# Altium schematic symbol library SCH - MCU - ATSAM - MICROCHIP SAMD21J16B-AZ TQFP64.SchLib: 1 symbol
Pins are listed as number, name and electrical type; pins without a type are passive.

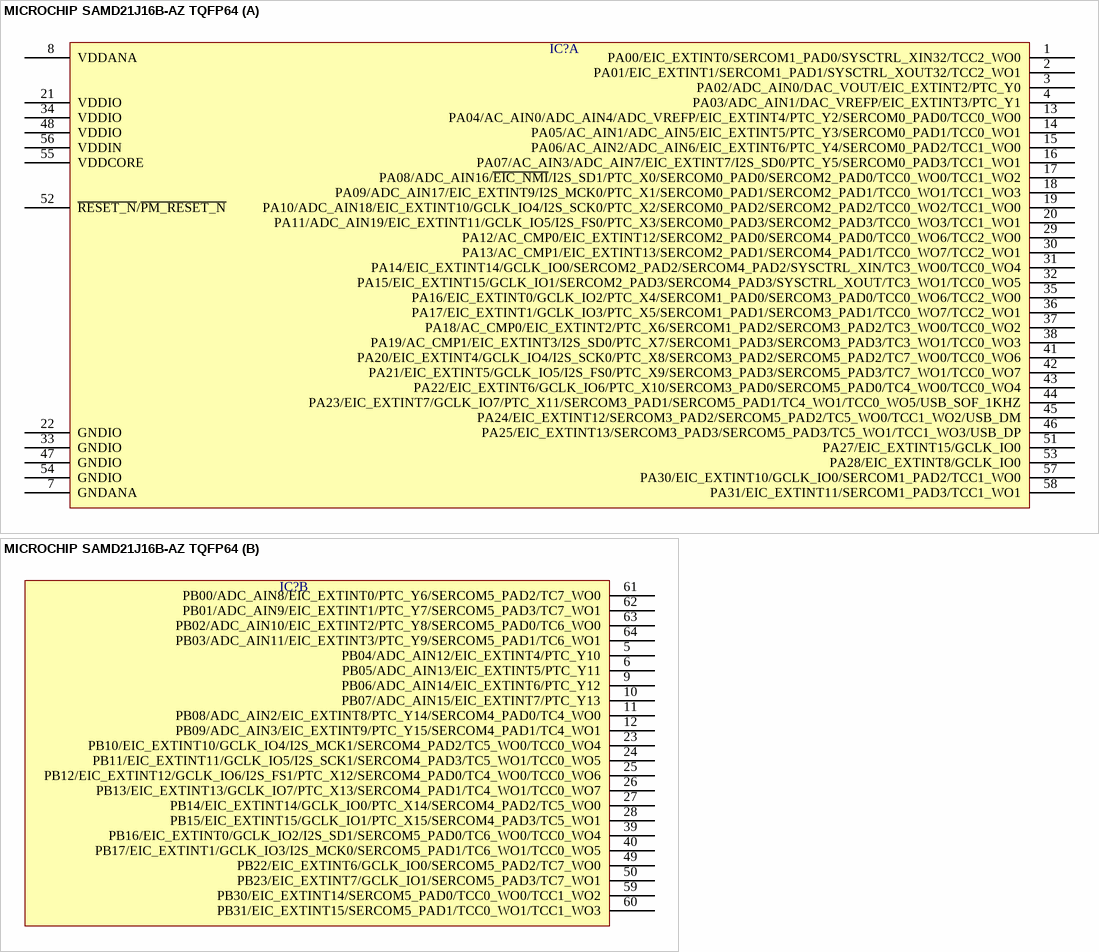
[diagram p0: symbol MICROCHIP SAMD21J16B-AZ TQFP64]

## MICROCHIP SAMD21J16B-AZ TQFP64
designator IC?  (value not drawn)
part A pins: 1 PA00/EIC_EXTINT0/SERCOM1_PAD0/SYSCTRL_XIN32/TCC2_WO0, 2 PA01/EIC_EXTINT1/SERCOM1_PAD1/SYSCTRL_XOUT32/TCC2_WO1, 3 PA02/ADC_AIN0/DAC_VOUT/EIC_EXTINT2/PTC_Y0, 4 PA03/ADC_AIN1/DAC_VREFP/EIC_EXTINT3/PTC_Y1, 7 GNDANA, 8 VDDANA, 13 PA04/AC_AIN0/ADC_AIN4/ADC_VREFP/EIC_EXTINT4/PTC_Y2/SERCOM0_PAD0/TCC0_WO0, 14 PA05/AC_AIN1/ADC_AIN5/EIC_EXTINT5/PTC_Y3/SERCOM0_PAD1/TCC0_WO1, 15 PA06/AC_AIN2/ADC_AIN6/EIC_EXTINT6/PTC_Y4/SERCOM0_PAD2/TCC1_WO0, 16 PA07/AC_AIN3/ADC_AIN7/EIC_EXTINT7/I2S_SD0/PTC_Y5/SERCOM0_PAD3/TCC1_WO1, 17 PA08/ADC_AIN16/~{EIC_NMI}/I2S_SD1/PTC_X0/SERCOM0_PAD0/SERCOM2_PAD0/TCC0_WO0/TCC1_WO2, 18 PA09/ADC_AIN17/EIC_EXTINT9/I2S_MCK0/PTC_X1/SERCOM0_PAD1/SERCOM2_PAD1/TCC0_WO1/TCC1_WO3, 19 PA10/ADC_AIN18/EIC_EXTINT10/GCLK_IO4/I2S_SCK0/PTC_X2/SERCOM0_PAD2/SERCOM2_PAD2/TCC0_WO2/TCC1_WO0, 20 PA11/ADC_AIN19/EIC_EXTINT11/GCLK_IO5/I2S_FS0/PTC_X3/SERCOM0_PAD3/SERCOM2_PAD3/TCC0_WO3/TCC1_WO1, 21 VDDIO, 22 GNDIO, 29 PA12/AC_CMP0/EIC_EXTINT12/SERCOM2_PAD0/SERCOM4_PAD0/TCC0_WO6/TCC2_WO0, 30 PA13/AC_CMP1/EIC_EXTINT13/SERCOM2_PAD1/SERCOM4_PAD1/TCC0_WO7/TCC2_WO1, 31 PA14/EIC_EXTINT14/GCLK_IO0/SERCOM2_PAD2/SERCOM4_PAD2/SYSCTRL_XIN/TC3_WO0/TCC0_WO4, 32 PA15/EIC_EXTINT15/GCLK_IO1/SERCOM2_PAD3/SERCOM4_PAD3/SYSCTRL_XOUT/TC3_WO1/TCC0_WO5, 33 GNDIO, 34 VDDIO, 35 PA16/EIC_EXTINT0/GCLK_IO2/PTC_X4/SERCOM1_PAD0/SERCOM3_PAD0/TCC0_WO6/TCC2_WO0, 36 PA17/EIC_EXTINT1/GCLK_IO3/PTC_X5/SERCOM1_PAD1/SERCOM3_PAD1/TCC0_WO7/TCC2_WO1, 37 PA18/AC_CMP0/EIC_EXTINT2/PTC_X6/SERCOM1_PAD2/SERCOM3_PAD2/TC3_WO0/TCC0_WO2, 38 PA19/AC_CMP1/EIC_EXTINT3/I2S_SD0/PTC_X7/SERCOM1_PAD3/SERCOM3_PAD3/TC3_WO1/TCC0_WO3, 41 PA20/EIC_EXTINT4/GCLK_IO4/I2S_SCK0/PTC_X8/SERCOM3_PAD2/SERCOM5_PAD2/TC7_WO0/TCC0_WO6, 42 PA21/EIC_EXTINT5/GCLK_IO5/I2S_FS0/PTC_X9/SERCOM3_PAD3/SERCOM5_PAD3/TC7_WO1/TCC0_WO7, 43 PA22/EIC_EXTINT6/GCLK_IO6/PTC_X10/SERCOM3_PAD0/SERCOM5_PAD0/TC4_WO0/TCC0_WO4, 44 PA23/EIC_EXTINT7/GCLK_IO7/PTC_X11/SERCOM3_PAD1/SERCOM5_PAD1/TC4_WO1/TCC0_WO5/USB_SOF_1KHZ, 45 PA24/EIC_EXTINT12/SERCOM3_PAD2/SERCOM5_PAD2/TC5_WO0/TCC1_WO2/USB_DM, 46 PA25/EIC_EXTINT13/SERCOM3_PAD3/SERCOM5_PAD3/TC5_WO1/TCC1_WO3/USB_DP, 47 GNDIO, 48 VDDIO, 51 PA27/EIC_EXTINT15/GCLK_IO0, 52 ~{RESET_N}/~{PM_RESET_N}, 53 PA28/EIC_EXTINT8/GCLK_IO0, 54 GNDIO, 55 VDDCORE, 56 VDDIN, 57 PA30/EIC_EXTINT10/GCLK_IO0/SERCOM1_PAD2/TCC1_WO0, 58 PA31/EIC_EXTINT11/SERCOM1_PAD3/TCC1_WO1
part B pins: 5 PB04/ADC_AIN12/EIC_EXTINT4/PTC_Y10, 6 PB05/ADC_AIN13/EIC_EXTINT5/PTC_Y11, 9 PB06/ADC_AIN14/EIC_EXTINT6/PTC_Y12, 10 PB07/ADC_AIN15/EIC_EXTINT7/PTC_Y13, 11 PB08/ADC_AIN2/EIC_EXTINT8/PTC_Y14/SERCOM4_PAD0/TC4_WO0, 12 PB09/ADC_AIN3/EIC_EXTINT9/PTC_Y15/SERCOM4_PAD1/TC4_WO1, 23 PB10/EIC_EXTINT10/GCLK_IO4/I2S_MCK1/SERCOM4_PAD2/TC5_WO0/TCC0_WO4, 24 PB11/EIC_EXTINT11/GCLK_IO5/I2S_SCK1/SERCOM4_PAD3/TC5_WO1/TCC0_WO5, 25 PB12/EIC_EXTINT12/GCLK_IO6/I2S_FS1/PTC_X12/SERCOM4_PAD0/TC4_WO0/TCC0_WO6, 26 PB13/EIC_EXTINT13/GCLK_IO7/PTC_X13/SERCOM4_PAD1/TC4_WO1/TCC0_WO7, 27 PB14/EIC_EXTINT14/GCLK_IO0/PTC_X14/SERCOM4_PAD2/TC5_WO0, 28 PB15/EIC_EXTINT15/GCLK_IO1/PTC_X15/SERCOM4_PAD3/TC5_WO1, 39 PB16/EIC_EXTINT0/GCLK_IO2/I2S_SD1/SERCOM5_PAD0/TC6_WO0/TCC0_WO4, 40 PB17/EIC_EXTINT1/GCLK_IO3/I2S_MCK0/SERCOM5_PAD1/TC6_WO1/TCC0_WO5, 49 PB22/EIC_EXTINT6/GCLK_IO0/SERCOM5_PAD2/TC7_WO0, 50 PB23/EIC_EXTINT7/GCLK_IO1/SERCOM5_PAD3/TC7_WO1, 59 PB30/EIC_EXTINT14/SERCOM5_PAD0/TCC0_WO0/TCC1_WO2, 60 PB31/EIC_EXTINT15/SERCOM5_PAD1/TCC0_WO1/TCC1_WO3, 61 PB00/ADC_AIN8/EIC_EXTINT0/PTC_Y6/SERCOM5_PAD2/TC7_WO0, 62 PB01/ADC_AIN9/EIC_EXTINT1/PTC_Y7/SERCOM5_PAD3/TC7_WO1, 63 PB02/ADC_AIN10/EIC_EXTINT2/PTC_Y8/SERCOM5_PAD0/TC6_WO0, 64 PB03/ADC_AIN11/EIC_EXTINT3/PTC_Y9/SERCOM5_PAD1/TC6_WO1